# EAGLE library part LM3900 (library OTAs)
Quad Norton Amplifier 2.5 MHz Gain-Bandwidth Product (at inverting input) Differential current input, voltage output Norton Amplifiers differ from regular op amps, and form the inverse of the operational transconductance amplifier. A good introductory app note is the National (now TI) AN-278, which is available at http://www.ti.com/lit/an/snoa666b/snoa666b.pdf
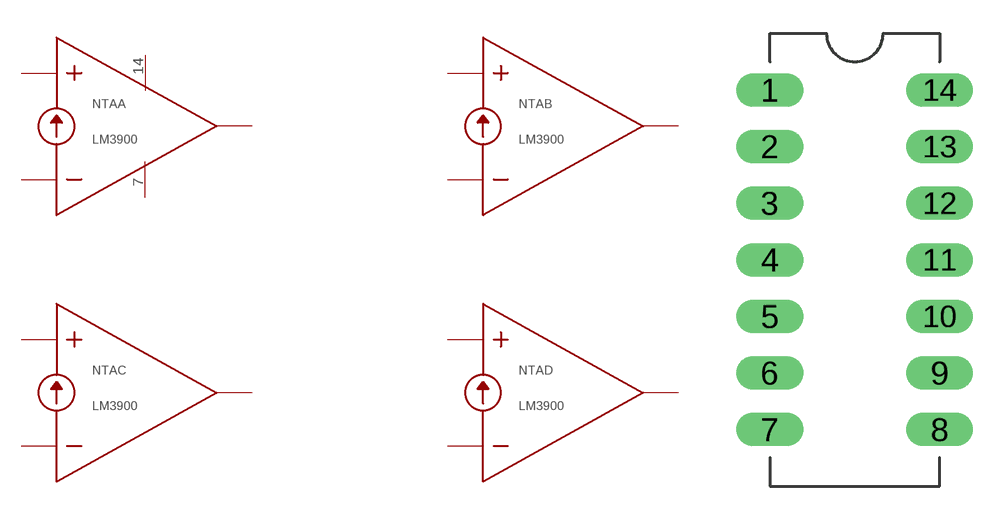
[diagram p7: symbol with the pads of DIP14; footprint DIP14]

Designator prefix NTA; gates A=NORTON B=NORTON C=NORTON D=NORTON POWER=POWERPIN

## LM3900N  [DIP14]
1  A:IN+
2  B:IN+
3  B:IN-
4  B:OUT
5  A:OUT
6  A:IN-
7  POWER:VEE  pwr
8  C:IN-
9  C:OUT
10  D:OUT
11  D:IN-
12  D:IN+
13  C:IN+
14  POWER:VCC  pwr

## Footprint DIP14 (pad centres in mm)
drill 1 long: 1 -3.81,6.35; 2 -3.81,3.81; 3 -3.81,1.27; 4 -3.81,-1.27; 5 -3.81,-3.81; 6 -3.81,-6.35; 7 -3.81,-8.89; 8 3.81,-8.89; 9 3.81,-6.35; 10 3.81,-3.81; 11 3.81,-1.27; 12 3.81,1.27; 13 3.81,3.81; 14 3.81,6.35